# Altium footprint library 2.02-SSOP封装.PcbLib: 35 footprints (part 1 of 3)
Each footprint in its own frame and in the unit in brackets; x right, y up, seen from the top. Pads: shape width x height; smd on the part's side, far side on the other; paste and mask are expansions set on the pad; w line width, h text height; cw(c..) or ccw(c..) is an arc to the next point about the centre after c.
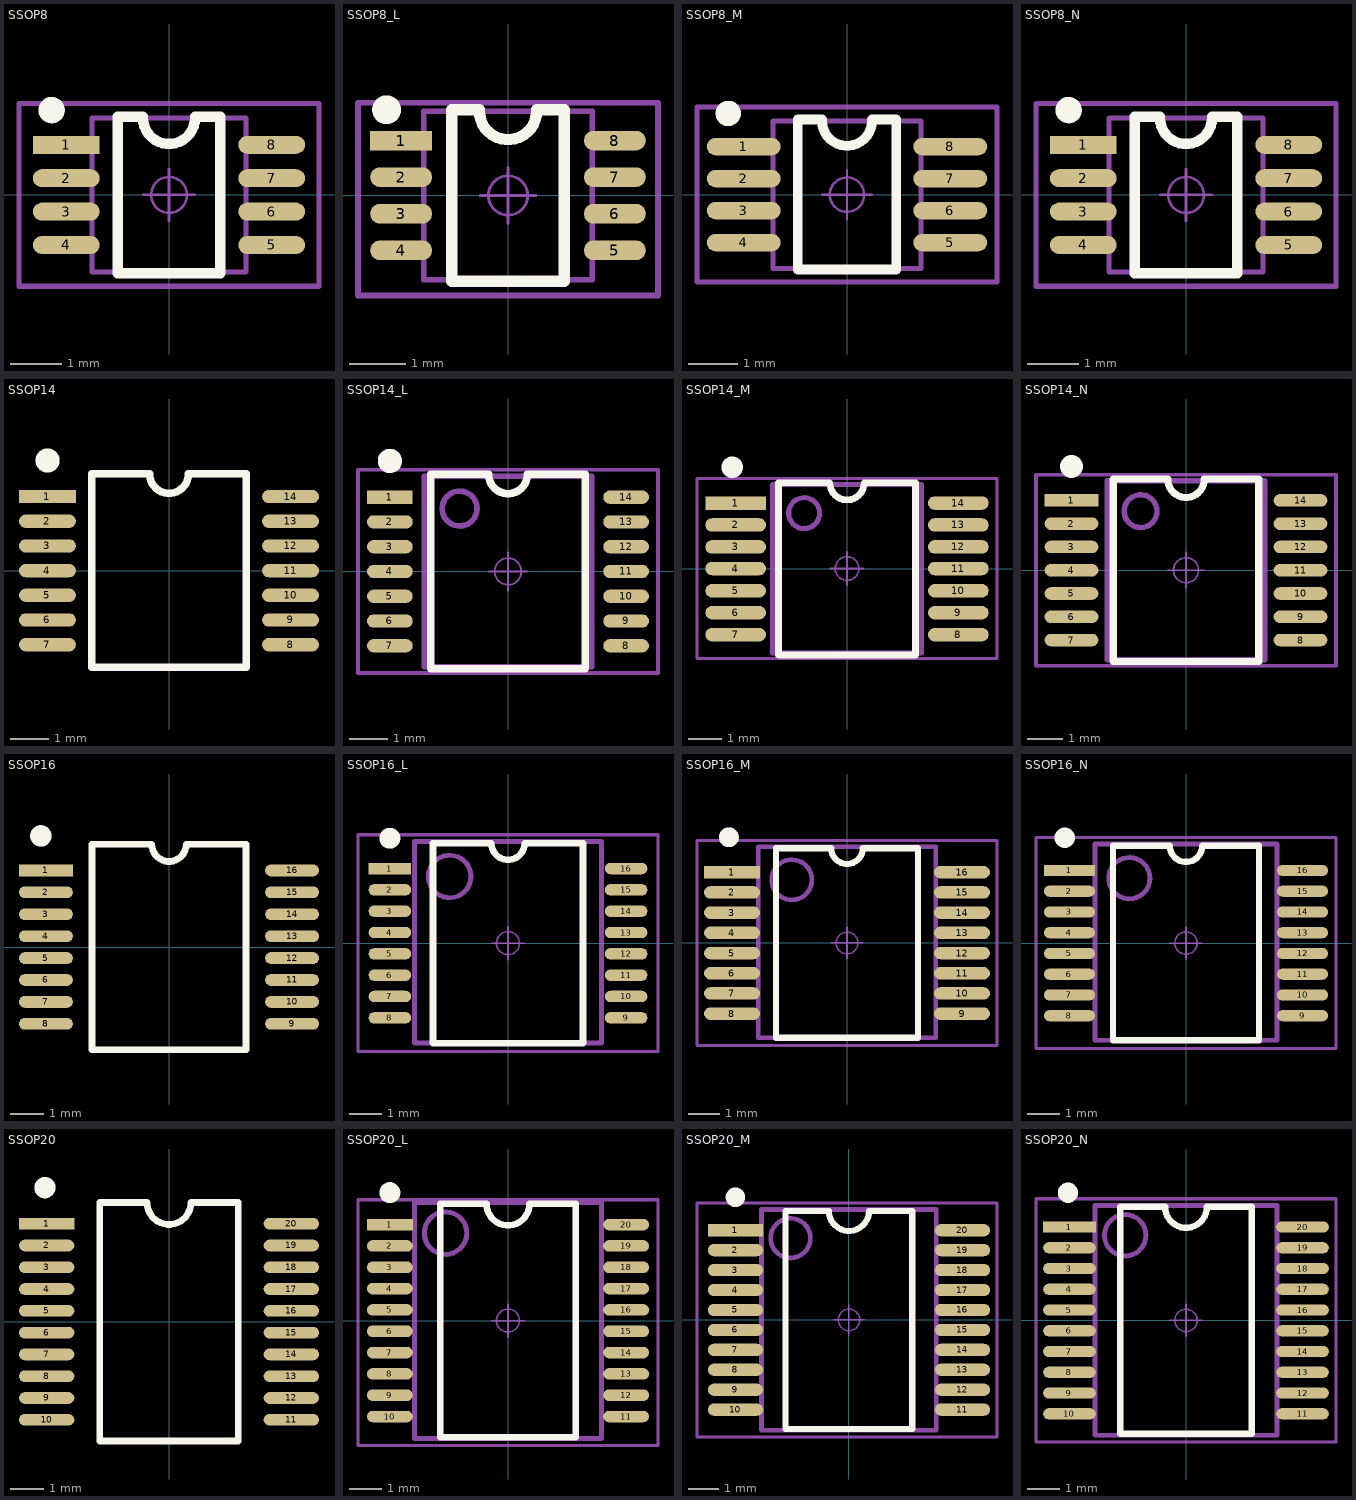
[diagram p0: the footprints below, top view; thin cyan lines are the x and y axes]

## SSOP8 [mm] "SSOP-8_L3.0-W3.0-P0.65      [ PCBѧϰȺ514746572 ]"
pads (8):
  rect 1.3x0.35 smd: 1(-2,0.975)
  oval 1.3x0.35 smd: 2(-2,0.325) 3(-2,-0.325) 4(-2,-0.975) 5(2,-0.975) 6(2,-0.325) 7(2,0.325) 8(2,0.975)
Top Overlay:
  circle w0.254: c-2.286,1.651 r0.13
  lines w0.2: -0.508,1.5 ccw(c0,1.5) 0.508,1.5 ; -0.508,1.524 -1,1.524 -1,-1.524 1,-1.524 1,1.524 0.508,1.524
Mechanical 13:
  lines w0.1: -1.5,-1.5 1.5,-1.5 1.5,1.5 -1.5,1.5 -1.5,-1.5
Mechanical 15:
  circle w0.05: c0,0 r0.35
  lines w0.05: -0.5,0 0.5,0 ; 0,-0.5 0,0.5
  lines w0.1: -2.921,-1.778 -2.921,1.778 2.921,1.778 2.921,-1.778 -2.921,-1.778
3D body "User Library-SSOP-8-P-0_65.STEP": height 1.2, standoff 0.05, extent -1.9,-1.45 2.1,1.45

## SSOP8_L [mm] "SSOP-8_L3.0-W3.0-P0.65      [ PCBѧϰȺ514746572 ]"
pads (8):
  rect 1.1x0.35 smd: 1(-1.9,0.975)
  oval 1.1x0.35 smd: 2(-1.9,0.325) 3(-1.9,-0.325) 4(-1.9,-0.975) 5(1.9,-0.975) 6(1.9,-0.325) 7(1.9,0.325) 8(1.9,0.975)
Top Overlay:
  circle w0.254: c-2.159,1.524 r0.13
  lines w0.2: -0.508,1.5 ccw(c0,1.5) 0.508,1.5 ; -0.508,1.524 -1,1.524 -1,-1.524 1,-1.524 1,1.524 0.508,1.524
Mechanical 13:
  lines w0.1: -1.5,-1.5 1.5,-1.5 1.5,1.5 -1.5,1.5 -1.5,-1.5
Mechanical 15:
  circle w0.05: c0,0 r0.35
  lines w0.05: -0.5,0 0.5,0 ; 0,-0.5 0,0.5
  lines w0.1: -2.667,-1.778 -2.667,1.651 2.667,1.651 2.667,-1.778 -2.667,-1.778
3D body "User Library-SSOP-8-P-0_65.STEP": height 1.2, standoff 0.05, extent -2,-1.45 2,1.45

## SSOP8_M [mm] "SSOP-8_L3.0-W3.0-P0.65      [ PCBѧϰȺ514746572 ]"
pads (8):
  oval 1.5x0.35 smd: 1(-2.1,0.975) 2(-2.1,0.325) 3(-2.1,-0.325) 4(-2.1,-0.975) 5(2.1,-0.975) 6(2.1,-0.325) 7(2.1,0.325) 8(2.1,0.975)
Top Overlay:
  circle w0.254: c-2.413,1.651 r0.13
  lines w0.2: -0.508,1.5 ccw(c0,1.5) 0.508,1.5 ; -0.508,1.524 -1,1.524 -1,-1.524 1,-1.524 1,1.524 0.508,1.524
Mechanical 13:
  lines w0.1: -1.5,-1.5 1.5,-1.5 1.5,1.5 -1.5,1.5 -1.5,-1.5
Mechanical 15:
  circle w0.05: c0,0 r0.35
  lines w0.05: -0.5,0 0.5,0 ; 0,-0.5 0,0.5
  lines w0.1: -3.048,-1.778 -3.048,1.778 3.048,1.778 3.048,-1.778 -3.048,-1.778
3D body "User Library-SSOP-8-P-0_65.STEP": height 1.2, standoff 0.05, extent -2.025,-1.475 1.975,1.425

## SSOP8_N [mm] "SSOP-8_L3.0-W3.0-P0.65      [ PCBѧϰȺ514746572 ]"
pads (8):
  rect 1.3x0.35 smd: 1(-2,0.975)
  oval 1.3x0.35 smd: 2(-2,0.325) 3(-2,-0.325) 4(-2,-0.975) 5(2,-0.975) 6(2,-0.325) 7(2,0.325) 8(2,0.975)
Top Overlay:
  circle w0.254: c-2.286,1.651 r0.13
  lines w0.2: -0.508,1.5 ccw(c0,1.5) 0.508,1.5 ; -0.508,1.524 -1,1.524 -1,-1.524 1,-1.524 1,1.524 0.508,1.524
Mechanical 13:
  lines w0.1: -1.5,-1.5 -1.5,1.5 1.5,1.5 1.5,-1.5 -1.5,-1.5
Mechanical 15:
  circle w0.05: c0,0 r0.35
  lines w0.05: -0.5,0 0.5,0 ; 0,-0.5 0,0.5
  lines w0.1: -2.921,-1.778 2.921,-1.778 2.921,1.778 -2.921,1.778 -2.921,-1.778
3D body "User Library-SSOP-8-P-0_65.STEP": height 1.2, standoff 0.05, extent -1.9,-1.45 2.1,1.45

## SSOP14 [mm] "5*6.4*1.2mm      [ PCBѧϰȺ514746572 ]"
pads (14):
  rect 1.5x0.35 smd: 1(-3.2,1.95)
  oval 1.5x0.35 smd: 2(-3.2,1.3) 3(-3.2,0.65) 4(-3.2,0) 5(-3.2,-0.65) 6(-3.2,-1.3) 7(-3.2,-1.95) 8(3.2,-1.95) 9(3.2,-1.3) 10(3.2,-0.65) 11(3.2,0) 12(3.2,0.65) 13(3.2,1.3) 14(3.2,1.95)
Top Overlay:
  circle w0.381: c-3.2,2.9 r0.127
  lines w0.2: -2.032,-2.55 -2.032,2.55 -0.508,2.55 ccw(c0,2.54) 0.508,2.55 2.032,2.55 2.032,-2.55 -2.032,-2.55
3D body "SSOP14.STEP": height 1.25, standoff -0.03, extent -3.202,-2.5 3.202,2.5

## SSOP14_L [mm] "5*6.4*1.2mm（长宽高）      [ PCB学习群514746572 ]"
height 1.1
pads (14):
  rect 1.2x0.35 smd: 1(-3.1,1.95)
  oval 1.2x0.35 smd: 2(-3.1,1.3) 3(-3.1,0.65) 4(-3.1,0) 5(-3.1,-0.65) 6(-3.1,-1.3) 7(-3.1,-1.95) 8(3.1,-1.95) 9(3.1,-1.3) 10(3.1,-0.65) 11(3.1,0) 12(3.1,0.65) 13(3.1,1.3) 14(3.1,1.95)
Top Overlay:
  circle w0.381: c-3.1,2.9 r0.127
  lines w0.2: -2.032,-2.55 2.032,-2.55 2.032,2.55 0.508,2.55 cw(c0,2.55) -0.508,2.55 -2.032,2.55 -2.032,-2.55
Mechanical 13:
  circle w0.15: c-1.27,1.651 r0.458
  lines w0.15: -2.2,-2.5 -2.2,2.5 2.2,2.5 2.2,-2.5 -2.2,-2.5
Mechanical 15:
  circle w0.05: c0,0 r0.35
  lines w0.05: -0.5,0 0.5,0 ; 0,-0.5 0,0.5
  lines w0.1: -3.937,-2.667 3.937,-2.667 3.937,2.667 -3.937,2.667 -3.937,-2.54 -3.937,-2.667
3D body "SSOP14.STEP": height 1.25, standoff -0.03, extent -3.202,-2.5 3.202,2.5

## SSOP14_M [mm] "5*6.4*1.2mm（长宽高）      [ PCB学习群514746572 ]"
height 1.1
pads (14):
  rect 1.8x0.4 smd: 1(-3.3,1.94)
  oval 1.8x0.4 smd: 2(-3.3,1.29) 3(-3.3,0.64) 4(-3.3,0) 5(-3.3,-0.66) 6(-3.3,-1.31) 7(-3.3,-1.96) 8(3.3,-1.96) 9(3.3,-1.31) 10(3.3,-0.66) 11(3.3,0) 12(3.3,0.64) 13(3.3,1.29) 14(3.3,1.94)
Top Overlay:
  circle w0.381: c-3.4,3 r0.127
  lines w0.2: -2.032,-2.56 2.032,-2.56 2.032,2.54 0.508,2.54 cw(c0,2.54) -0.508,2.54 -2.032,2.54 -2.032,-2.56
Mechanical 13:
  circle w0.15: c-1.27,1.641 r0.458
  lines w0.15: -2.2,-2.51 2.2,-2.51 2.2,2.49 -2.2,2.49 -2.2,-2.51
Mechanical 15:
  circle w0.05: c0,0 r0.35
  lines w0.05: -0.5,0 0.5,0 ; 0,-0.5 0,0.5
  lines w0.1: -4.445,-2.667 4.445,-2.667 4.445,2.667 -4.445,2.667 -4.445,-2.667
3D body "SSOP14.STEP": height 1.25, standoff -0.03, extent -3.202,-2.5 3.202,2.5

## SSOP14_N [mm] "5*6.4*1.2mm（长宽高）      [ PCB学习群514746572 ]"
height 1.1
pads (14):
  rect 1.5x0.35 smd: 1(-3.2,1.95)
  oval 1.5x0.35 smd: 2(-3.2,1.3) 3(-3.2,0.65) 4(-3.2,0) 5(-3.2,-0.65) 6(-3.2,-1.3) 7(-3.2,-1.95) 8(3.2,-1.95) 9(3.2,-1.3) 10(3.2,-0.65) 11(3.2,0) 12(3.2,0.65) 13(3.2,1.3) 14(3.2,1.95)
Top Overlay:
  circle w0.381: c-3.2,2.9 r0.127
  lines w0.2: -2.032,-2.55 -2.032,2.55 -0.508,2.55 ccw(c0,2.54) 0.508,2.55 2.032,2.55 2.032,-2.55 -2.032,-2.55
Mechanical 13:
  circle w0.15: c-1.27,1.651 r0.458
  lines w0.15: -2.2,-2.5 2.2,-2.5 2.2,2.5 -2.2,2.5 -2.2,-2.5
Mechanical 15:
  circle w0.05: c0,0 r0.35
  lines w0.05: -0.5,0 0.5,0 ; 0,-0.5 0,0.5
  lines w0.1: -4.191,-2.667 4.191,-2.667 4.191,2.667 -4.191,2.667 -4.191,-2.667
3D body "SSOP14.STEP": height 1.25, standoff -0.03, extent -3.202,-2.5 3.202,2.5

## SSOP16 [mm] "6.3*7.7*1.6mm      [ PCBѧϰȺ514746572 ]"
pads (16):
  rect 1.6x0.35 smd: 1(-3.65,2.275)
  oval 1.6x0.35 smd: 2(-3.65,1.625) 3(-3.65,0.975) 4(-3.65,0.325) 5(-3.65,-0.325) 6(-3.65,-0.975) 7(-3.65,-1.625) 8(-3.65,-2.275) 9(3.65,-2.275) 10(3.65,-1.625) 11(3.65,-0.975) 12(3.65,-0.325) 13(3.65,0.325) 14(3.65,0.975) 15(3.65,1.625) 16(3.65,2.275)
Top Overlay:
  circle w0.381: c-3.8,3.3 r0.127
  lines w0.2: -2.286,-3.048 -2.286,3.048 -0.508,3.048 ccw(c0,3.048) 0.508,3.048 2.286,3.048 2.286,-3.048 -2.286,-3.048
3D body "SSOP16.STEP": height 1.65, standoff -0.03, extent -3.852,-3.1 3.852,3.1

## SSOP16_L [mm] "6.3*7.7*1.6mm（长宽高）      [ PCB学习群514746572 ]"
pads (16):
  rect 1.3x0.35 smd: 1(-3.6,2.275)
  oval 1.3x0.35 smd: 2(-3.6,1.625) 3(-3.6,0.975) 4(-3.6,0.325) 5(-3.6,-0.325) 6(-3.6,-0.975) 7(-3.6,-1.625) 8(-3.6,-2.275) 9(3.6,-2.275) 10(3.6,-1.625) 11(3.6,-0.975) 12(3.6,-0.325) 13(3.6,0.325) 14(3.6,0.975) 15(3.6,1.625) 16(3.6,2.275)
Top Overlay:
  circle w0.381: c-3.6,3.2 r0.127
  lines w0.2: -2.286,-3.048 -2.286,3.048 -0.508,3.048 ccw(c0,3.048) 0.508,3.048 2.286,3.048 2.286,-3.048 -2.286,-3.048
Mechanical 13:
  circle w0.15: c-1.778,2.032 r0.648
  lines w0.15: -2.85,-3.048 2.85,-3.048 2.85,3.1 -2.85,3.1 -2.85,-3.048
Mechanical 15:
  circle w0.05: c0,0 r0.35
  lines w0.05: -0.5,0 0.5,0 ; 0,-0.5 0,0.5
  lines w0.1: -4.572,-3.302 -4.572,3.302 4.572,3.302 4.572,-3.302 -4.572,-3.302
3D body "SSOP16.STEP": height 1.65, standoff -0.03, extent -3.852,-3.1 3.852,3.1

## SSOP16_M [mm] "6.3*7.7*1.6mm（长宽高）      [ PCB学习群514746572 ]"
pads (16):
  rect 1.8x0.4 smd: 1(-3.7,2.275)
  oval 1.8x0.4 smd: 2(-3.7,1.625) 3(-3.7,0.975) 4(-3.7,0.325) 5(-3.7,-0.325) 6(-3.7,-0.975) 7(-3.7,-1.625) 8(-3.7,-2.275) 9(3.7,-2.275) 10(3.7,-1.625) 11(3.7,-0.975) 12(3.7,-0.325) 13(3.7,0.325) 14(3.7,0.975) 15(3.7,1.625) 16(3.7,2.275)
Top Overlay:
  circle w0.381: c-3.8,3.4 r0.127
  lines w0.2: -2.286,-3.048 2.286,-3.048 2.286,3.048 0.508,3.048 cw(c0,3.048) -0.508,3.048 -2.286,3.048 -2.286,-3.048
Mechanical 13:
  circle w0.15: c-1.778,2.032 r0.648
  lines w0.15: -2.85,-3.048 -2.85,3.1 2.85,3.1 2.85,-3.048 -2.85,-3.048
Mechanical 15:
  circle w0.05: c0,0 r0.35
  lines w0.05: -0.5,0 0.5,0 ; 0,-0.5 0,0.5
  lines w0.1: -4.826,-3.302 4.826,-3.302 4.826,3.302 -4.826,3.302 -4.826,-3.302
3D body "SSOP16.STEP": height 1.65, standoff -0.03, extent -3.852,-3.1 3.852,3.1

## SSOP16_N [mm] "6.3*7.7*1.6mm（长宽高）      [ PCB学习群514746572 ]"
pads (16):
  rect 1.6x0.35 smd: 1(-3.65,2.275)
  oval 1.6x0.35 smd: 2(-3.65,1.625) 3(-3.65,0.975) 4(-3.65,0.325) 5(-3.65,-0.325) 6(-3.65,-0.975) 7(-3.65,-1.625) 8(-3.65,-2.275) 9(3.65,-2.275) 10(3.65,-1.625) 11(3.65,-0.975) 12(3.65,-0.325) 13(3.65,0.325) 14(3.65,0.975) 15(3.65,1.625) 16(3.65,2.275)
Top Overlay:
  circle w0.381: c-3.8,3.3 r0.127
  lines w0.2: -2.286,-3.048 -2.286,3.048 -0.508,3.048 ccw(c0,3.048) 0.508,3.048 2.286,3.048 2.286,-3.048 -2.286,-3.048
Mechanical 13:
  circle w0.15: c-1.778,2.032 r0.648
  lines w0.15: -2.85,-3.048 -2.85,3.1 2.85,3.1 2.85,-3.048 -2.85,-3.048
Mechanical 15:
  circle w0.05: c0,0 r0.35
  lines w0.05: -0.5,0 0.5,0 ; 0,-0.5 0,0.5
  lines w0.1: -4.699,-3.302 4.699,-3.302 4.699,3.302 -4.699,3.302 -4.699,-3.302
3D body "SSOP16.STEP": height 1.65, standoff -0.03, extent -3.852,-3.1 3.852,3.1

## SSOP20 [mm] "7.2*7.8*1.6mm      [ PCBѧϰȺ514746572 ]"
pads (20):
  rect 1.65x0.35 smd: 1(-3.65,2.925)
  oval 1.65x0.35 smd: 2(-3.65,2.275) 3(-3.65,1.625) 4(-3.65,0.975) 5(-3.65,0.325) 6(-3.65,-0.325) 7(-3.65,-0.975) 8(-3.65,-1.625) 9(-3.65,-2.275) 10(-3.65,-2.925) 11(3.65,-2.925) 12(3.65,-2.275) 13(3.65,-1.625) 14(3.65,-0.975) 15(3.65,-0.325) 16(3.65,0.325) 17(3.65,0.975) 18(3.65,1.625) 19(3.65,2.275) 20(3.65,2.925)
Top Overlay:
  circle w0.381: c-3.7,4 r0.127
  lines w0.2: -2.065,-3.556 2.065,-3.556 2.065,3.556 0.655,3.556 cw(c0,3.556) -0.655,3.556 -2.065,3.556 -2.065,-3.556
3D body "SSOP20.STEP": height 1.65, standoff -0.03, extent -3.852,-3.6 3.852,3.6

## SSOP20_L [mm] "7.2*7.8*1.6（长宽高）      [ PCB学习群514746572 ]"
pads (20):
  rect 1.4x0.35 smd: 1(-3.6,2.925)
  oval 1.4x0.35 smd: 2(-3.6,2.275) 3(-3.6,1.625) 4(-3.6,0.975) 5(-3.6,0.325) 6(-3.6,-0.325) 7(-3.6,-0.975) 8(-3.6,-1.625) 9(-3.6,-2.275) 10(-3.6,-2.925) 11(3.6,-2.925) 12(3.6,-2.275) 13(3.6,-1.625) 14(3.6,-0.975) 15(3.6,-0.325) 16(3.6,0.325) 17(3.6,0.975) 18(3.6,1.625) 19(3.6,2.275) 20(3.6,2.925)
Top Overlay:
  circle w0.381: c-3.6,3.9 r0.127
  lines w0.2: -2.065,-3.556 2.065,-3.556 2.065,3.556 0.655,3.556 cw(c0,3.556) -0.655,3.556 -2.065,3.556 -2.065,-3.556
Mechanical 13:
  circle w0.15: c-1.905,2.667 r0.648
  lines w0.15: -2.85,-3.6 2.85,-3.6 2.85,3.6 -2.85,3.6 -2.85,-3.6
Mechanical 15:
  circle w0.05: c0,0 r0.35
  lines w0.05: -0.5,0 0.5,0 ; 0,-0.5 0,0.5
  lines w0.1: -4.572,-3.81 -2.667,-3.81 4.572,-3.81 4.572,3.683 -4.572,3.683 -4.572,-3.81
3D body "SSOP20.STEP": height 1.65, standoff -0.03, extent -3.852,-3.6 3.852,3.6

## SSOP20_M [mm] "7.2*7.8*1.6（长宽高）      [ PCB学习群514746572 ]"
pads (20):
  rect 1.8x0.4 smd: 1(-3.7,2.925)
  oval 1.8x0.4 smd: 2(-3.7,2.275) 3(-3.7,1.625) 4(-3.7,0.975) 5(-3.7,0.325) 6(-3.7,-0.325) 7(-3.7,-0.975) 8(-3.7,-1.625) 9(-3.7,-2.275) 10(-3.7,-2.925) 11(3.7,-2.925) 12(3.7,-2.275) 13(3.7,-1.625) 14(3.7,-0.975) 15(3.7,-0.325) 16(3.7,0.325) 17(3.7,0.975) 18(3.7,1.625) 19(3.7,2.275) 20(3.7,2.925)
Top Overlay:
  circle w0.381: c-3.7,4 r0.127
  lines w0.2: -2.065,-3.556 2.065,-3.556 2.065,3.556 0.655,3.556 cw(c0,3.556) -0.655,3.556 -2.065,3.556 -2.065,-3.556
Mechanical 13:
  circle w0.15: c-1.905,2.667 r0.648
  lines w0.15: -2.85,-3.6 2.85,-3.6 2.85,3.6 -2.85,3.6 -2.85,-3.6
Mechanical 15:
  circle w0.05: c0,0 r0.35
  lines w0.05: -0.5,0 0.5,0 ; 0,-0.5 0,0.5
  lines w0.1: -4.953,-3.81 4.826,-3.81 4.826,3.81 -4.953,3.81 -4.953,-3.81
3D body "SSOP20.STEP": height 1.65, standoff -0.03, extent -3.852,-3.6 3.852,3.6

## SSOP20_N [mm] "7.2*7.8*1.6（长宽高）      [ PCB学习群514746572 ]"
pads (20):
  rect 1.65x0.35 smd: 1(-3.65,2.925)
  oval 1.65x0.35 smd: 2(-3.65,2.275) 3(-3.65,1.625) 4(-3.65,0.975) 5(-3.65,0.325) 6(-3.65,-0.325) 7(-3.65,-0.975) 8(-3.65,-1.625) 9(-3.65,-2.275) 10(-3.65,-2.925) 11(3.65,-2.925) 12(3.65,-2.275) 13(3.65,-1.625) 14(3.65,-0.975) 15(3.65,-0.325) 16(3.65,0.325) 17(3.65,0.975) 18(3.65,1.625) 19(3.65,2.275) 20(3.65,2.925)
Top Overlay:
  circle w0.381: c-3.7,4 r0.127
  lines w0.2: -2.065,-3.556 -2.065,3.556 -0.655,3.556 ccw(c0,3.556) 0.655,3.556 2.065,3.556 2.065,-3.556 -2.065,-3.556
Mechanical 13:
  circle w0.15: c-1.905,2.667 r0.648
  lines w0.15: -2.85,-3.6 2.85,-3.6 2.85,3.6 -2.85,3.6 -2.85,-3.6
Mechanical 15:
  circle w0.05: c0,0 r0.35
  lines w0.05: -0.5,0 0.5,0 ; 0,-0.5 0,0.5
  lines w0.1: -4.699,-3.81 -4.699,3.81 4.699,3.81 4.699,-3.81 -4.699,-3.81
3D body "SSOP20.STEP": height 1.65, standoff -0.03, extent -3.852,-3.6 3.852,3.6